# Altium footprint library 61300811021.PcbLib: 1 footprints
Each footprint in its own frame and in the unit in brackets; x right, y up, seen from the top. Pads: shape width x height; smd on the part's side, far side on the other; paste and mask are expansions set on the pad; w line width, h text height; cw(c..) or ccw(c..) is an arc to the next point about the centre after c.
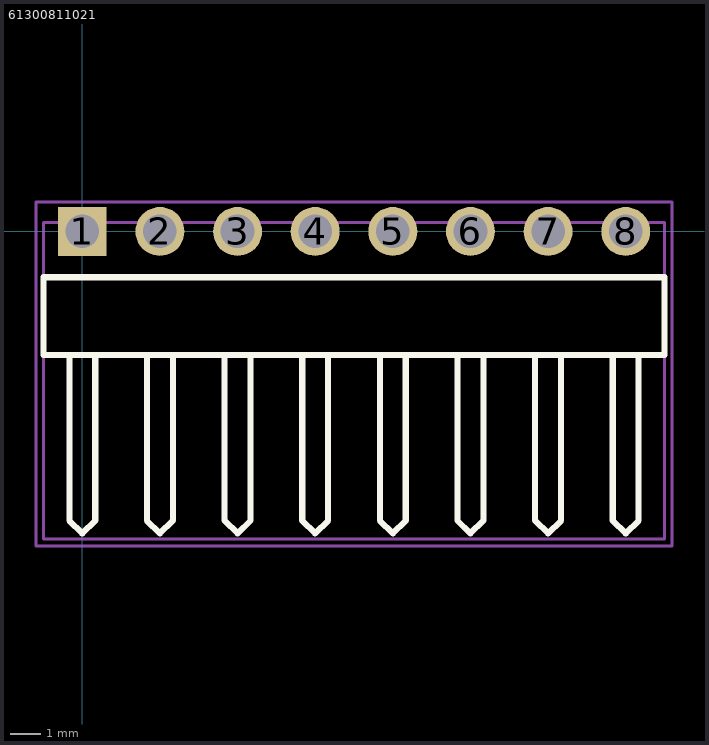
[diagram p0: the footprint, top view; thin cyan lines are the x and y axes]

## 61300811021 [mm] "Pitch 2,54mm Body 20.32X10mm High 2.54mm"
height 2.54
pads (8):
  rect 1.6x1.6 hole 1.1: 1(0,0)
  round 1.6 hole 1.1: 2(2.54,0) 3(5.08,0) 4(7.62,0) 5(10.16,0) 6(12.7,0) 7(15.24,0) 8(17.78,0)
Top Overlay:
  lines w0.2: -0.423,-4.065 -0.423,-9.459 0,-9.882 0.423,-9.459 0.423,-4.04 ; 2.117,-4.065 2.117,-9.459 2.54,-9.882 2.963,-9.459 2.963,-4.065 ; 4.657,-4.065 4.657,-9.459 5.08,-9.882 5.503,-9.459 5.503,-4.04 ; 7.197,-4.065 7.197,-9.459 7.62,-9.882 8.043,-9.459 8.043,-4.065 ; 9.737,-4.065 9.737,-9.459 10.16,-9.882 10.583,-9.459 10.583,-4.04 ; 12.277,-4.065 12.277,-9.459 12.7,-9.882 13.123,-9.459 13.123,-4.065 ; 14.817,-4.065 14.817,-9.459 15.24,-9.882 15.663,-9.459 15.663,-4.04 ; 17.357,-4.065 17.357,-9.459 17.78,-9.882 18.203,-9.459 18.203,-4.065 ; -1.27,-4.04 19.05,-4.04 19.05,-1.5 -1.27,-1.5 -1.27,-4.04
Mechanical 13:
  lines w0.1: -1.27,-10.064 19.05,-10.064 19.05,0.296 -1.27,0.296 -1.27,-10.064
Mechanical 15:
  lines w0.1: -1.52,-10.29 19.3,-10.29 19.3,0.96 -1.52,0.96 -1.52,-10.29
3D body: height 2.55, standoff -2.99, extent -1.27,-10.064 19.05,0.296